# Altium schematic symbol library TPS259802ONRGER.SchLib: 1 symbol
Pins are listed as number, name and electrical type; pins without a type are passive.

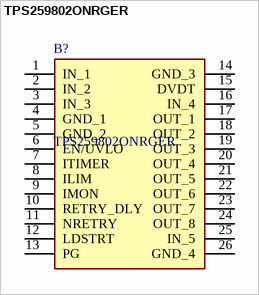
[diagram p0: symbol TPS259802ONRGER]

## TPS259802ONRGER
designator B?
Hot Swap Voltage Controllers 2.7-V to 24-V, 8-A, 3-mO smart eFuse with adjustable transient fault management; Manufacturer_Name: Texas Instruments; Geometry.Height: 1mm; Mouser Part Number: 595-TPS259802ONRGER; Mouser Price/Stock: https://www.mouser.co.uk/ProductDetail/Texas-Instruments/TPS259802ONRGER?qs=hWgE7mdIu5R0hcZums61iA%3D%3D; Manufacturer_Part_Number: TPS259802ONRGER; Datasheet Link: https://www.ti.com/lit/gpn/tps25980?HQS=ti-null-null-sf-df-pf-sep-wwe&DCM=yes
footprint TPS259802ONRGER
pins: 1 IN_1, 2 IN_2, 3 IN_3, 4 GND_1, 5 GND_2, 6 EN/UVLO, 7 ITIMER, 8 ILIM, 9 IMON, 10 RETRY_DLY, 11 NRETRY, 12 LDSTRT, 13 PG, 14 GND_3, 15 DVDT, 16 IN_4, 17 OUT_1, 18 OUT_2, 19 OUT_3, 20 OUT_4, 21 OUT_5, 22 OUT_6, 23 OUT_7, 24 OUT_8, 25 IN_5, 26 GND_4